# EAGLE library part PIC24FJXXGB004 (library pic24gagb)
PIC24FJXXGB004
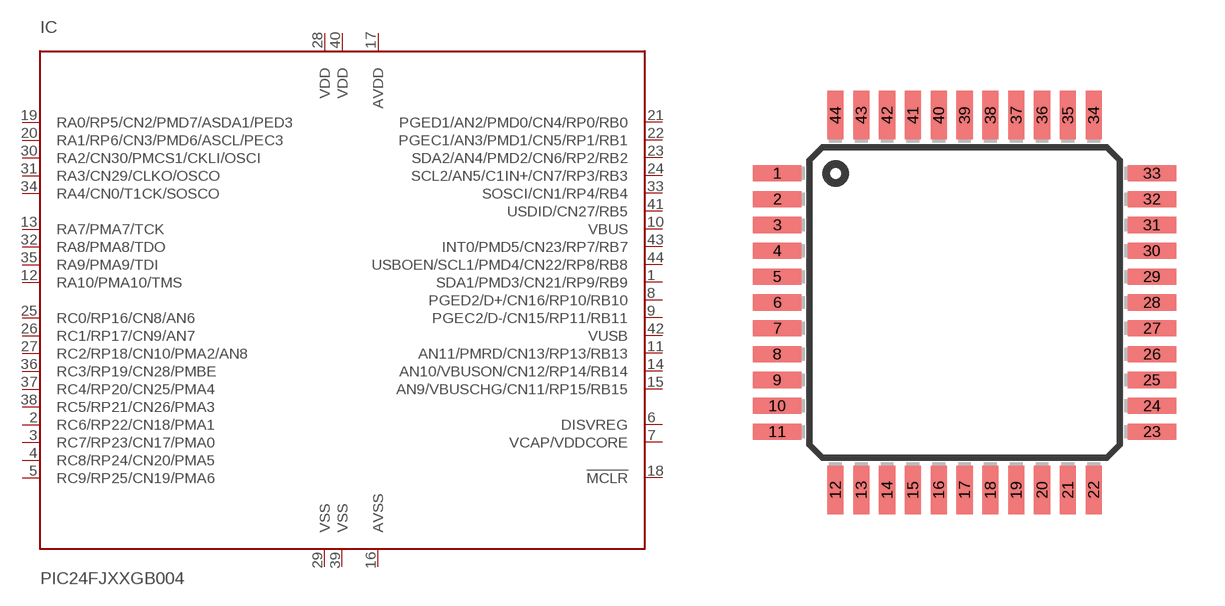
[diagram p4: symbol with the pads of TQFP44; footprint TQFP44]

Designator prefix IC

## PIC24FJXXGB004/PT  [TQFP44]
1  SDA1/PMD3/CN21/RP9/RB9
2  RC6/RP22/CN18/PMA1
3  RC7/RP23/CN17/PMA0
4  RC8/RP24/CN20/PMA5
5  RC9/RP25/CN19/PMA6
6  DISVREG  in
7  VCAP/VDDCORE  pwr
8  PGED2/D+/CN16/RP10/RB10
9  PGEC2/D-/CN15/RP11/RB11
10  VBUS
11  AN11/PMRD/CN13/RP13/RB13
12  RA10/PMA10/TMS
13  RA7/PMA7/TCK
14  AN10/VBUSON/CN12/RP14/RB14
15  AN9/VBUSCHG/CN11/RP15/RB15
16  AVSS  pwr
17  AVDD  pwr
18  !MCLR  in
19  RA0/RP5/CN2/PMD7/ASDA1/PED3
20  RA1/RP6/CN3/PMD6/ASCL/PEC3
21  PGED1/AN2/PMD0/CN4/RP0/RB0
22  PGEC1/AN3/PMD1/CN5/RP1/RB1
23  SDA2/AN4/PMD2/CN6/RP2/RB2
24  SCL2/AN5/C1IN+/CN7/RP3/RB3
25  RC0/RP16/CN8/AN6
26  RC1/RP17/CN9/AN7
27  RC2/RP18/CN10/PMA2/AN8
28  VDD  pwr
29  VSS  pwr
30  RA2/CN30/PMCS1/CKLI/OSCI
31  RA3/CN29/CLKO/OSCO
32  RA8/PMA8/TDO
33  SOSCI/CN1/RP4/RB4
34  RA4/CN0/T1CK/SOSCO
35  RA9/PMA9/TDI
36  RC3/RP19/CN28/PMBE
37  RC4/RP20/CN25/PMA4
38  RC5/RP21/CN26/PMA3
39  VSS  pwr
40  VDD  pwr
41  USDID/CN27/RB5
42  VUSB
43  INT0/PMD5/CN23/RP7/RB7
44  USBOEN/SCL1/PMD4/CN22/RP8/RB8

## Footprint TQFP44 (pad centres in mm)
Thin Quad Flat Pack package type TQ
smd 1.5 x 0.5: 1 -5.8,4; 2 -5.8,3.2; 3 -5.8,2.4; 4 -5.8,1.6; 5 -5.8,0.8; 6 -5.8,0; 7 -5.8,-0.8; 8 -5.8,-1.6; 9 -5.8,-2.4; 10 -5.8,-3.2; 11 -5.8,-4; 23 5.8,-4; 24 5.8,-3.2; 25 5.8,-2.4; 26 5.8,-1.6; 27 5.8,-0.8; 28 5.8,0; 29 5.8,0.8; 30 5.8,1.6; 31 5.8,2.4; 32 5.8,3.2; 33 5.8,4
smd 0.5 x 1.5: 12 -4,-5.8; 13 -3.2,-5.8; 14 -2.4,-5.8; 15 -1.6,-5.8; 16 -0.8,-5.8; 17 0,-5.8; 18 0.8,-5.8; 19 1.6,-5.8; 20 2.4,-5.8; 21 3.2,-5.8; 22 4,-5.8; 34 4,5.8; 35 3.2,5.8; 36 2.4,5.8; 37 1.6,5.8; 38 0.8,5.8; 39 0,5.8; 40 -0.8,5.8; 41 -1.6,5.8; 42 -2.4,5.8; 43 -3.2,5.8; 44 -4,5.8